# EAGLE library part 5051102491 (library 5051102491)
Check availability <https://pricing.snapeda.com/parts/505110-2491/Molex/view-part?ref=eda>
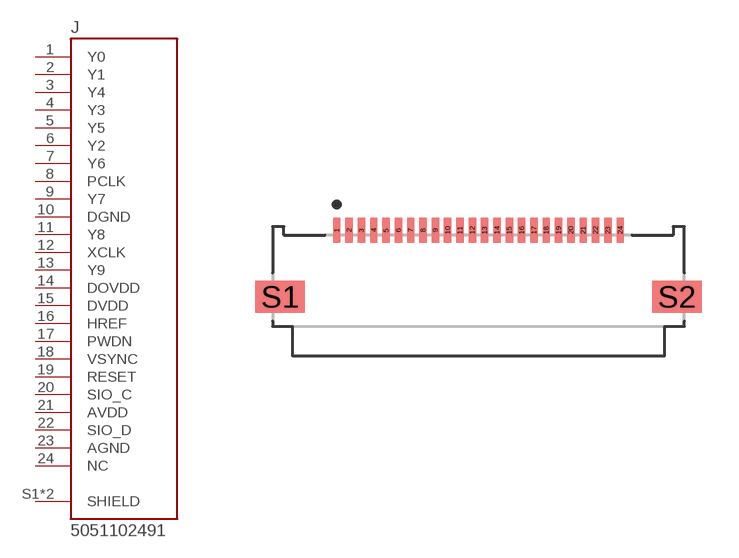
[diagram p0: symbol with the pads of MOLEX_5051102491; footprint MOLEX_5051102491]

Designator prefix J

## 5051102491 (AVAILABILITY: In Stock; CHECK_PRICES: https://www.snapeda.com/parts/505110-2491/Molex/view-part/?ref=eda; DESCRIPTION: Conn; Rect; Rt. Angle; FFC/FPC; 0.50MM Pitch; 24 Circuit; Bottom Contact; ZIF | Molex Incorporated 505110-2491; MF: Molex; MP: 505110-2491; PACKAGE: None; PRICE: None; PURCHASE-URL: https://www.snapeda.com/api/url_track_click_mouser/?unipart_id=699820&manufacturer=Molex&part_name=505110-2491&search_term=None; SNAPEDA_LINK: https://www.snapeda.com/parts/505110-2491/Molex/view-part/?ref=snap)  [MOLEX_5051102491]
1  Y0  pas
2  Y1  pas
3  Y4  pas
4  Y3  pas
5  Y5  pas
6  Y2  pas
7  Y6  pas
8  PCLK  pas
9  Y7  pas
10  DGND  pas
11  Y8  pas
12  XCLK  pas
13  Y9  pas
14  DOVDD  pas
15  DVDD  pas
16  HREF  pas
17  PWDN  pas
18  VSYNC  pas
19  RESET  pas
20  SIO_C  pas
21  AVDD  pas
22  SIO_D  pas
23  AGND  pas
24  NC  pas
S1  SHIELD  pas
S2  SHIELD  pas

## Footprint MOLEX_5051102491 (pad centres in mm)
smd 0.3 x 1: 1 -5.75,2.7; 2 -5.25,2.7; 3 -4.75,2.7; 4 -4.25,2.7; 5 -3.75,2.7; 6 -3.25,2.7; 7 -2.75,2.7; 8 -2.25,2.7; 9 -1.75,2.7; 10 -1.25,2.7; 11 -0.75,2.7; 12 -0.25,2.7; 13 0.25,2.7; 14 0.75,2.7; 15 1.25,2.7; 16 1.75,2.7; 17 2.25,2.7; 18 2.75,2.7; 19 3.25,2.7; 20 3.75,2.7; 21 4.25,2.7; 22 4.75,2.7; 23 5.25,2.7; 24 5.75,2.7
smd 2 x 1.3: S1 -8.05,0; S2 8.05,0